# Altium schematic symbol library Library.SchLib: 49 symbols
Pins are listed as number, name and electrical type; pins without a type are passive.

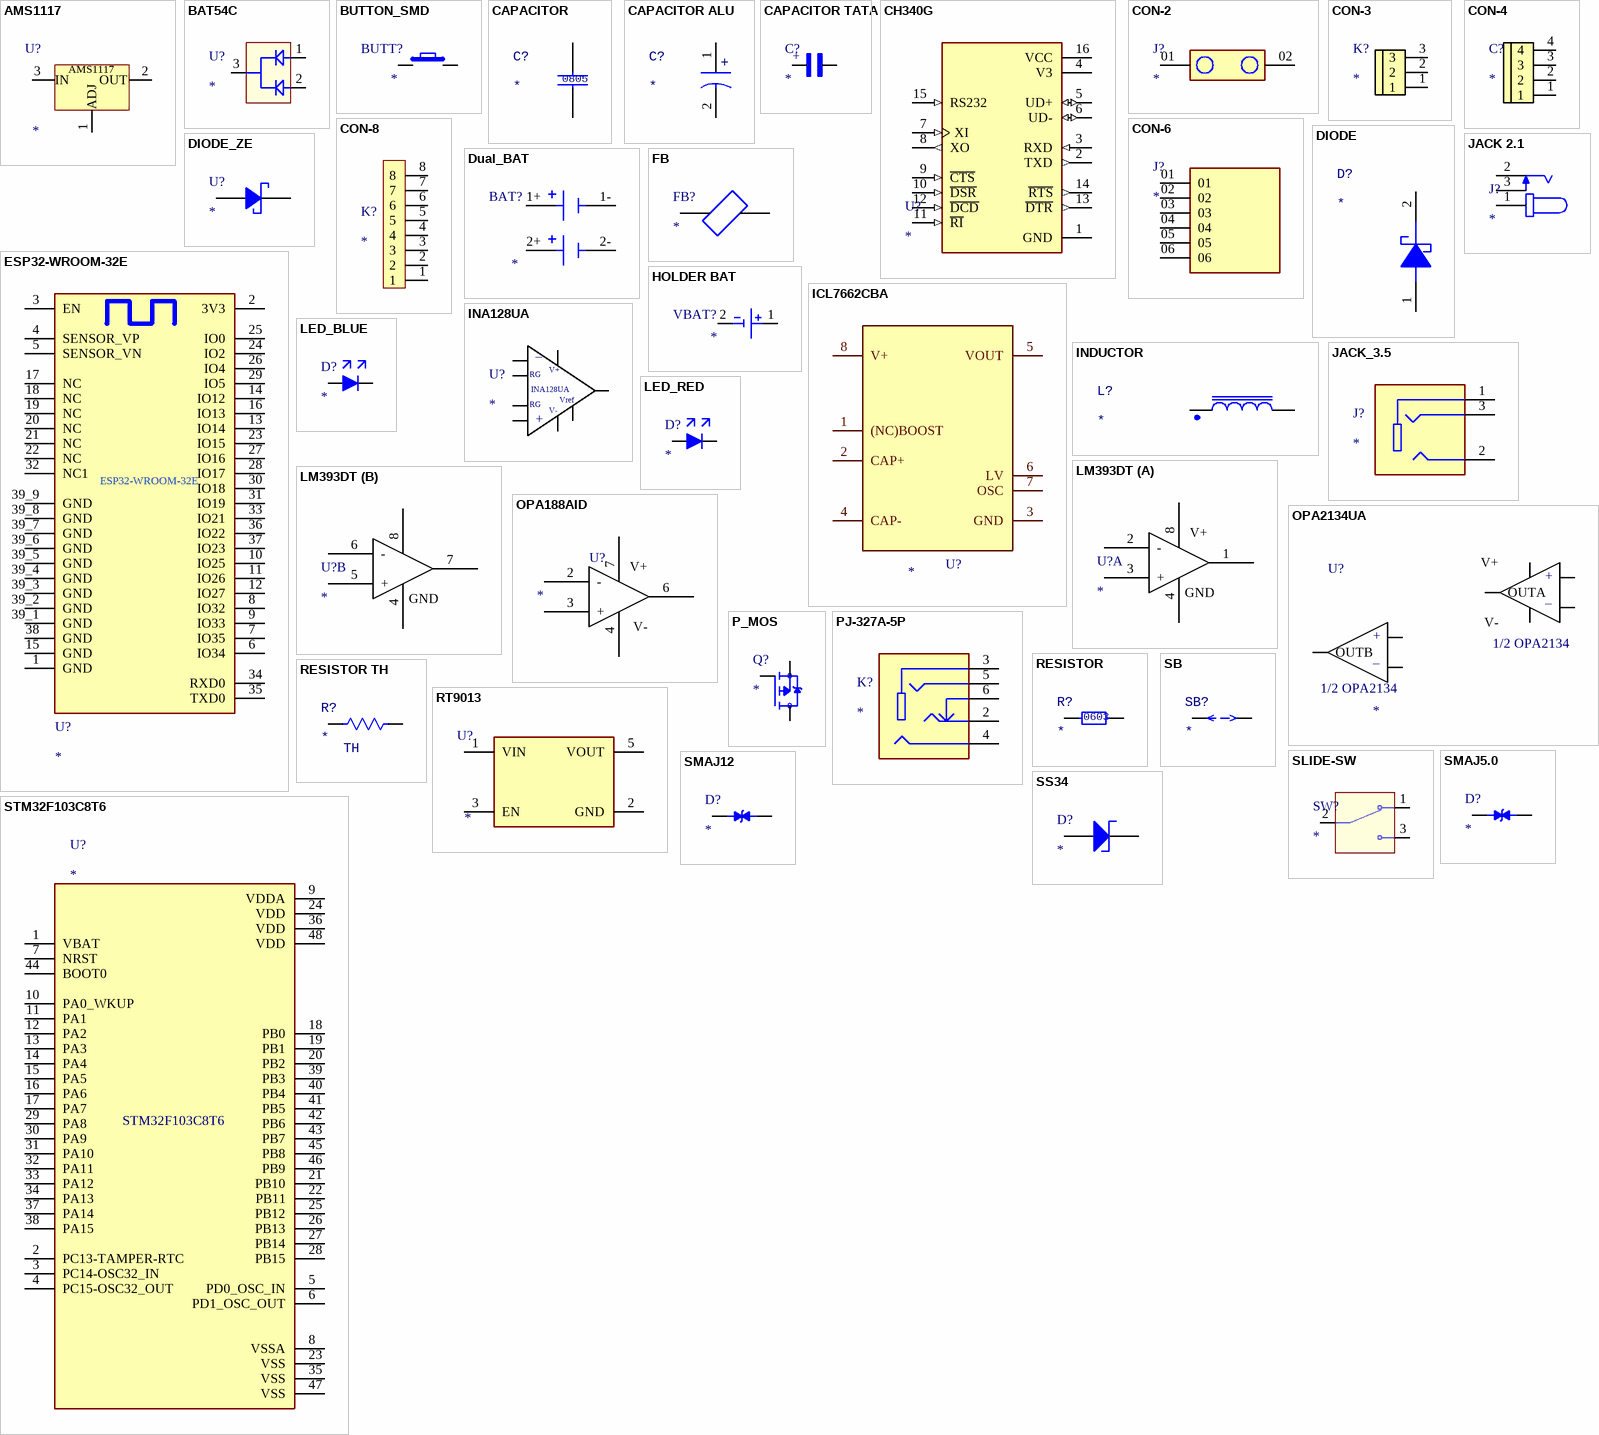
[diagram p0: symbols AMS1117 to STM32F103C8T6]

## AMS1117
designator U?
pins: 1 ADJ, 2 OUT, 3 IN

## BAT54C
designator U?
pins: 1, 2, 3

## BUTTON_SMD
designator BUTT?
pins: 1, 2

## CAPACITOR
designator C?  Size: 0805
pins: 1, 2

## CAPACITOR ALU
designator C?
pins: 1, 2
text: +

## CAPACITOR TATA
designator C?
pins: 1, 2
text: +

## CH340G
designator U?
pins: 1 GND (power), 2 TXD (out), 3 RXD (in), 4 V3 (power), 5 UD+ (io), 6 UD- (io), 7 XI (in), 8 XO (out), 9 ~{CTS} (in), 10 ~{DSR} (in), 11 ~{RI} (in), 12 ~{DCD} (in), 13 ~{DTR} (out), 14 ~{RTS} (out), 15 RS232 (in), 16 VCC (power)

## CON-2
designator J?
pins: 01, 02

## CON-3
designator K?
pins: 1, 2, 3

## CON-4
designator C?
pins: 1, 2, 3, 4

## CON-6
designator J?
pins: 01, 02, 03, 04, 05, 06

## CON-8
designator K?
pins: 1, 2, 3, 4, 5, 6, 7, 8

## DIODE
designator D?
pins: 1, 2

## DIODE_ZE
designator U?
pins: 1 A, 2 K

## Dual_BAT
designator BAT?
pins: 1+, 1-, 2+, 2-

## ESP32-WROOM-32E
designator U?
pins: 1 GND, 2 3V3, 3 EN, 4 SENSOR_VP, 5 SENSOR_VN, 6 IO34, 7 IO35, 8 IO32, 9 IO33, 10 IO25, 11 IO26, 12 IO27, 13 IO14, 14 IO12, 15 GND, 16 IO13, 17 NC, 18 NC, 19 NC, 20 NC, 21 NC, 22 NC, 23 IO15, 24 IO2, 25 IO0, 26 IO4, 27 IO16, 28 IO17, 29 IO5, 30 IO18, 31 IO19, 32 NC1, 33 IO21, 34 RXD0, 35 TXD0, 36 IO22, 37 IO23, 38 GND, 39_1 GND, 39_2 GND, 39_3 GND, 39_4 GND, 39_5 GND, 39_6 GND, 39_7 GND, 39_8 GND, 39_9 GND

## FB
designator FB?
pins: 1, 2

## HOLDER BAT
designator VBAT?
pins: 1 POS, 2 NEG

## ICL7662CBA
designator U?
pins: 1 (NC)BOOST (oc), 2 CAP+ (oc), 3 GND (oc), 4 CAP- (oc), 5 VOUT (oc), 6 LV (oc), 7 OSC (oc), 8 V+ (oc)

## INA128UA
designator U?
pins: 1 11, 2 10, 3 13, 4 10, 5 11, 6 9, 7 9, 8 12
text: _; V+; RG; Vref; V-; +

## INDUCTOR
designator L?
pins: 1, 2

## JACK 2.1
designator J?
pins: 1, 2, 3

## JACK_3.5
designator J?
pins: 1, 2, 3

## LED_BLUE
designator D?
pins: A, C K

## LED_RED
designator D?
pins: A, C K

## LM393DT
designator U?
part A pins: 1 OUT 1, 2 -, 3 +, 4 GND, 8 VCC
part B pins: 4 GND, 5 +, 6 -, 7 OUT 2, 8 VCC
part A text: V+

## OPA188AID
designator U?
pins: 2 -, 3 +, 4 GND, 6 OUT 1, 7 VCC
text: V+; V-

## OPA2134UA
designator U?
pins: 1 OUTA, 2 INA(-), 3 INA(+), 4 V-, 5 INB(+), 6 INB(-), 7 OUTB, 8 V+
text: +; _; 1/2 OPA2134

## P_MOS
designator Q?
pins: 1 G, 2 S, 3 D

## PJ-327A-5P
designator K?
pins: 2, 3 1, 4 2, 5 3, 6 3

## RESISTOR
designator R?  Size: 0603
Power Rate: *
pins: 1, 2

## RESISTOR TH
designator R?  Size: TH
pins: 1, 2

## RT9013
designator U?
pins: 1 VIN (power), 2 GND (power), 3 EN, 5 VOUT

## SB
designator SB?
pins: 1, 2

## SLIDE-SW
designator SW?
pins: 1, 2, 3

## SMAJ5.0
designator D?
pins: 1, 2

## SMAJ12
designator D?
pins: 1, 2

## SS34
designator D?
pins: 1 A, 2 K

## STM32F103C8T6
designator U?
pins: 1 VBAT, 2 PC13-TAMPER-RTC, 3 PC14-OSC32_IN, 4 PC15-OSC32_OUT, 5 PD0_OSC_IN, 6 PD1_OSC_OUT, 7 NRST, 8 VSSA (power), 9 VDDA (power), 10 PA0_WKUP, 11 PA1, 12 PA2, 13 PA3, 14 PA4, 15 PA5, 16 PA6, 17 PA7, 18 PB0, 19 PB1, 20 PB2, 21 PB10, 22 PB11, 23 VSS (power), 24 VDD (power), 25 PB12, 26 PB13, 27 PB14, 28 PB15, 29 PA8, 30 PA9, 31 PA10, 32 PA11, 33 PA12, 34 PA13, 35 VSS (power), 36 VDD (power), 37 PA14, 38 PA15, 39 PB3, 40 PB4, 41 PB5, 42 PB6, 43 PB7, 44 BOOT0, 45 PB8, 46 PB9, 47 VSS (power), 48 VDD (power)

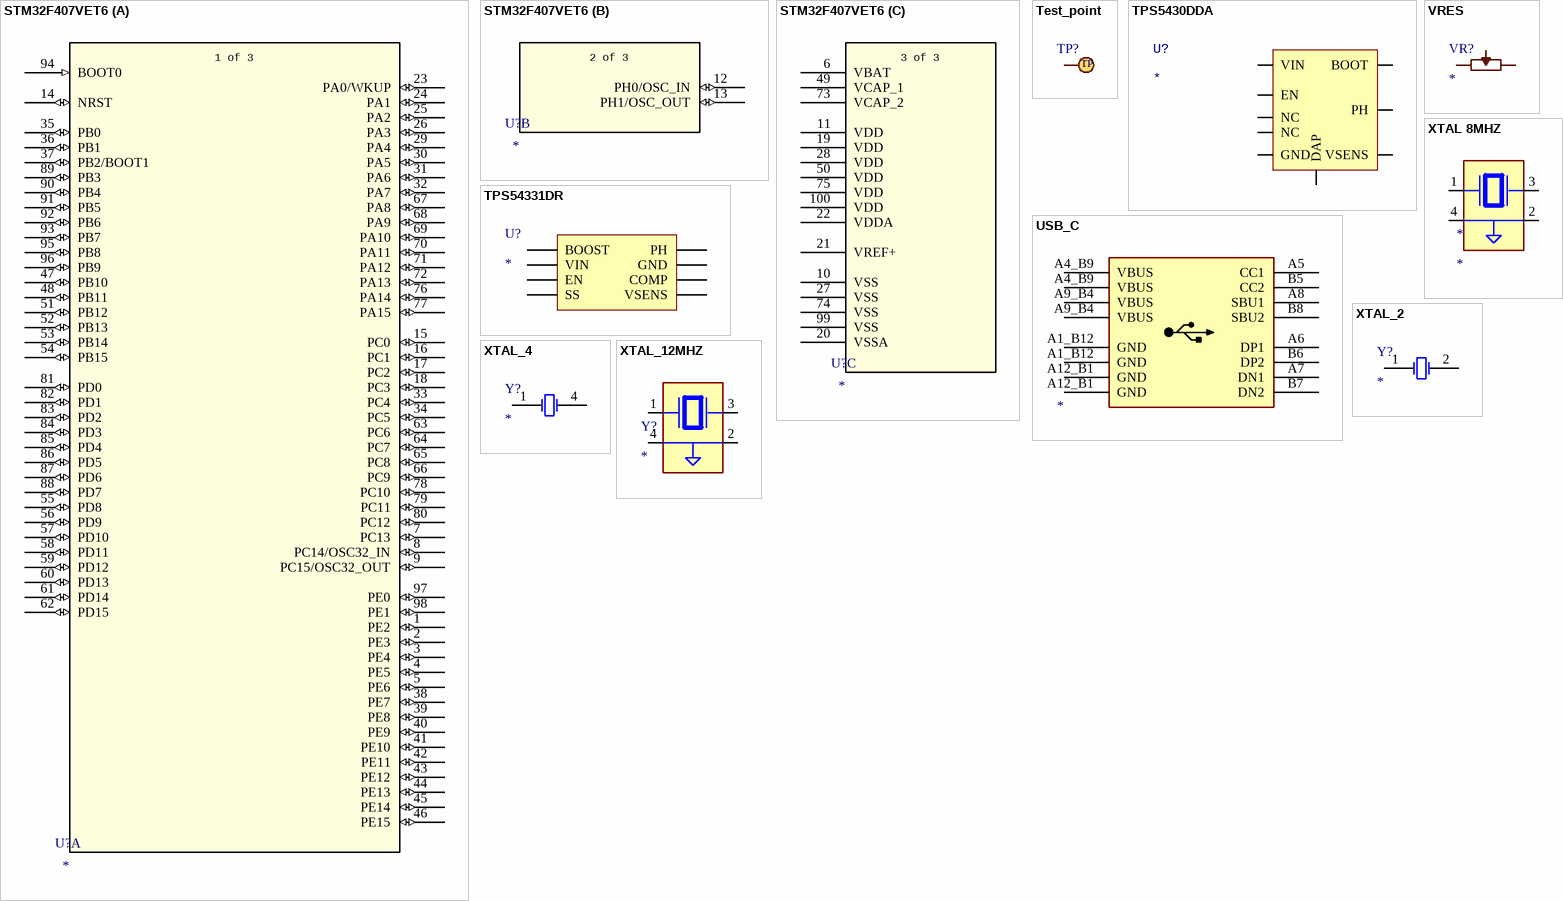
[diagram p1: symbols STM32F407VET6 to XTAL_12MHZ]

## STM32F407VET6
designator U?
part A pins: 1 PE2 (io), 2 PE3 (io), 3 PE4 (io), 4 PE5 (io), 5 PE6 (io), 7 PC13 (io), 8 PC14/OSC32_IN (io), 9 PC15/OSC32_OUT (io), 14 NRST (io), 15 PC0 (io), 16 PC1 (io), 17 PC2 (io), 18 PC3 (io), 23 PA0/WKUP (io), 24 PA1 (io), 25 PA2 (io), 26 PA3 (io), 29 PA4 (io), 30 PA5 (io), 31 PA6 (io), 32 PA7 (io), 33 PC4 (io), 34 PC5 (io), 35 PB0 (io), 36 PB1 (io), 37 PB2/BOOT1 (io), 38 PE7 (io), 39 PE8 (io), 40 PE9 (io), 41 PE10 (io), 42 PE11 (io), 43 PE12 (io), 44 PE13 (io), 45 PE14 (io), 46 PE15 (io), 47 PB10 (io), 48 PB11 (io), 51 PB12 (io), 52 PB13 (io), 53 PB14 (io), 54 PB15 (io), 55 PD8 (io), 56 PD9 (io), 57 PD10 (io), 58 PD11 (io), 59 PD12 (io), 60 PD13 (io), 61 PD14 (io), 62 PD15 (io), 63 PC6 (io), 64 PC7 (io), 65 PC8 (io), 66 PC9 (io), 67 PA8 (io), 68 PA9 (io), 69 PA10 (io), 70 PA11 (io), 71 PA12 (io), 72 PA13 (io), 76 PA14 (io), 77 PA15 (io), 78 PC10 (io), 79 PC11 (io), 80 PC12 (io), 81 PD0 (io), 82 PD1 (io), 83 PD2 (io), 84 PD3 (io), 85 PD4 (io), 86 PD5 (io), 87 PD6 (io), 88 PD7 (io), 89 PB3 (io), 90 PB4 (io), 91 PB5 (io), 92 PB6 (io), 93 PB7 (io), 94 BOOT0 (in), 95 PB8 (io), 96 PB9 (io), 97 PE0 (io), 98 PE1 (io)
part B pins: 12 PH0/OSC_IN (io), 13 PH1/OSC_OUT (io)
part C pins: 6 VBAT (power), 10 VSS (power), 11 VDD (power), 19 VDD (power), 20 VSSA (power), 21 VREF+ (power), 22 VDDA (power), 27 VSS (power), 28 VDD (power), 49 VCAP_1 (power), 50 VDD (power), 73 VCAP_2 (power), 74 VSS (power), 75 VDD (power), 99 VSS (power), 100 VDD (power)
part A text: 1 of 3
part B text: 2 of 3
part C text: 3 of 3

## Test_point
designator TP?  (value not drawn)
pins: 1
text: TP

## TPS5430DDA
designator U?
pins: 1 BOOT, 2 NC, 3 NC, 4 VSENS, 5 EN, 6 GND, 7 VIN, 8 PH, 9 DAP

## TPS54331DR
designator U?
pins: 1 BOOST, 2 VIN, 3 EN, 4 SS, 5 VSENS, 6 COMP, 7 GND, 8 PH

## USB_C
designator ?
pins: A1_B12 GND, A1_B12 GND, A4_B9 VBUS, A4_B9 VBUS, A5 CC1, A6 DP1, A7 DN1, A8 SBU1, A9_B4 VBUS, A9_B4 VBUS, A12_B1 GND, A12_B1 GND, B5 CC2, B6 DP2, B7 DN2, B8 SBU2

## VRES
designator VR?
pins: 1, 2, 3

## XTAL 8MHZ
designator *
pins: 1, 2 GND (power), 3 2, 4 GND

## XTAL_2
designator Y?
pins: 1 OSC1, 2 OSC2

## XTAL_4
designator Y?
pins: 1 OSC1, 4 OSC2

## XTAL_12MHZ
designator Y?
pins: 1, 2 GND (power), 3 2, 4 GND